# EAGLE library part 418117170904 (library Wurth_Elektronik_Electromechanic_Switch_rev16b)
2.54 mm compact THT with flat actuator WS-DITV, 4 Pole <http://katalog.we-online.de/media/images/v2/Family_WS_BS_4181171709xx_pf2.jpg> Details see: http://katalog.we-online.de/en/em/DITV_2_54_COMPACT_THT_WITH_FLAT_ACTUATOR 2015 (C) Wurth Elektronik
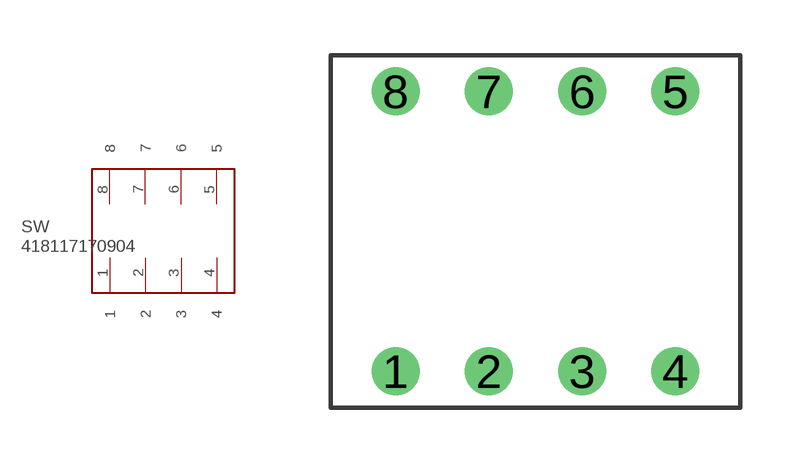
[diagram p50: symbol with the pads of 418117170904; footprint 418117170904]

Designator prefix SW

## 418117170904  [418117170904]
1  1
2  2
3  3
4  4
5  5
6  6
7  7
8  8

## Footprint 418117170904 (pad centres in mm)
WS-BS 2.54 mm compact THT Dip Switch with flat actuator, 4 Pole
drill 0.8: 1 -3.81,-3.81; 2 -1.27,-3.81; 3 1.27,-3.81; 4 3.81,-3.81; 5 3.81,3.81; 6 1.27,3.81; 7 -1.27,3.81; 8 -3.81,3.81